# EAGLE library part BMS_1-3 (library EL_POTENCIA_LIBRERIA_VES2018)
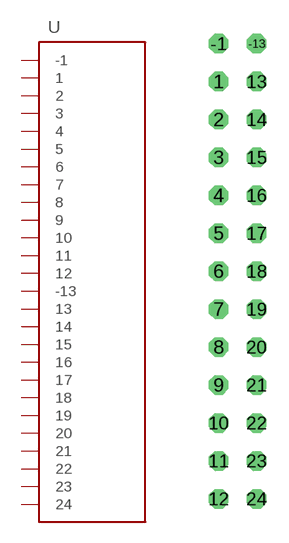
[diagram p6: symbol with the pads of BMS_1-3; footprint BMS_1-3]

Designator prefix -

## BMS_1-3  [BMS_1-3]
1  1
2  2
3  3
4  4
5  5
6  6
7  7
8  8
9  9
10  10
11  11
12  12
13  13
14  14
15  15
16  16
17  17
18  18
19  19
20  20
21  21
22  22
23  23
24  24
-1  -1
-13  -13

## Footprint BMS_1-3 (pad centres in mm)
drill 0.8 octagon: 1 -5.08,7.62; 2 -5.08,5.08; 3 -5.08,2.54; 4 -5.08,0; 5 -5.08,-2.54; 6 -5.08,-5.08; 7 -5.08,-7.62; 8 -5.08,-10.16; 9 -5.08,-12.7; 10 -5.08,-15.24; 11 -5.08,-17.78; 12 -5.08,-20.32; 13 -2.54,7.62; 14 -2.54,5.08; 15 -2.54,2.54; 16 -2.54,0; 17 -2.54,-2.54; 18 -2.54,-5.08; 19 -2.54,-7.62; 20 -2.54,-10.16; 21 -2.54,-12.7; 22 -2.54,-15.24; 23 -2.54,-17.78; 24 -2.54,-20.32; -1 -5.08,10.16; -13 -2.54,10.16